# EAGLE library part TP4056_BOOSTER_18650 (library TP4056_Booster18650)
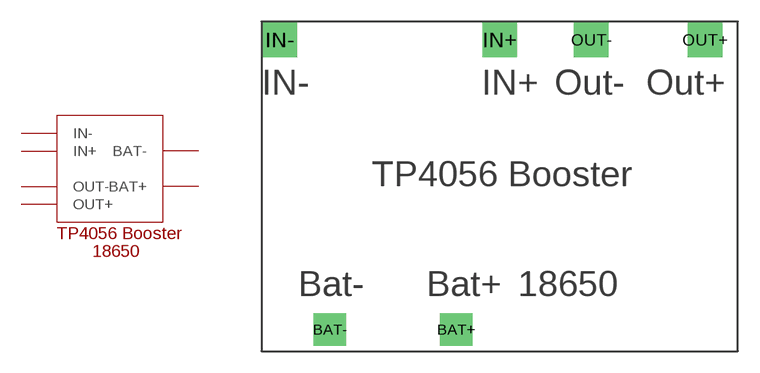
[diagram p0: symbol with the pads of TP4056_BOOSTER_18650; footprint TP4056_BOOSTER_18650]

Designator prefix -

## TP4056_BOOSTER_18650  [TP4056_BOOSTER_18650]
BAT+  BAT+  pwr
BAT-  BAT-  pwr
IN+  IN+  pwr
IN-  IN-  pwr
OUT+  OUT+  pwr
OUT-  OUT-  pwr

## Footprint TP4056_BOOSTER_18650 (pad centres in mm)
drill 1.5 square: BAT+ 13.5,1.5; BAT- 4.75,1.5
drill 1.6 square: IN+ 16.51,21.59; IN- 1.27,21.59; OUT+ 30.75,21.59; OUT- 22.86,21.59